# EAGLE library part STLINKV3MINI (library ST)
ST link V3 mini
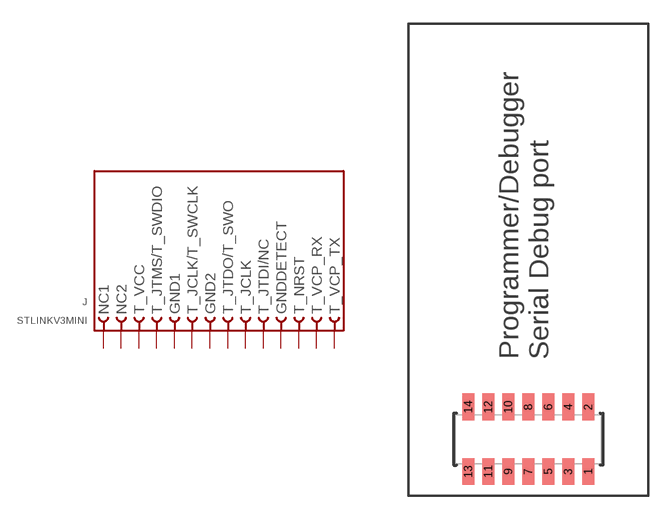
[diagram p0: symbol with the pads of STLINKV3MINI; footprint STLINKV3MINI]

Designator prefix J

## STLINKV3MINI  [STLINKV3MINI]
1  NC1  pas
2  NC2  pas
3  T_VCC  pas
4  T_JTMS/T_SWDIO  pas
5  GND1  pas
6  T_JCLK/T_SWCLK  pas
7  GND2  pas
8  T_JTDO/T_SWO  pas
9  T_JCLK  pas
10  T_JTDI/NC  pas
11  GNDDETECT  pas
12  T_NRST  pas
13  T_VCP_RX  pas
14  T_VCP_TX  pas

## Footprint STLINKV3MINI (pad centres in mm)
WR-PHD 1.27 mm SMT Dual Socket Header, H=4.50 mm, 14 Pins
smd 0.74 x 1.7: 1 3.81,-2.05; 2 3.81,2.05; 3 2.54,-2.05; 4 2.54,2.05; 5 1.27,-2.05; 6 1.27,2.05; 7 0,-2.05; 8 0,2.05; 9 -1.27,-2.05; 10 -1.27,2.05; 11 -2.54,-2.05; 12 -2.54,2.05; 13 -3.81,-2.05; 14 -3.81,2.05